# EAGLE library part ARDUINO_DUEMILANOVE (library lpatiny copy)
Arduino Duemilanove I/O pin arrangement
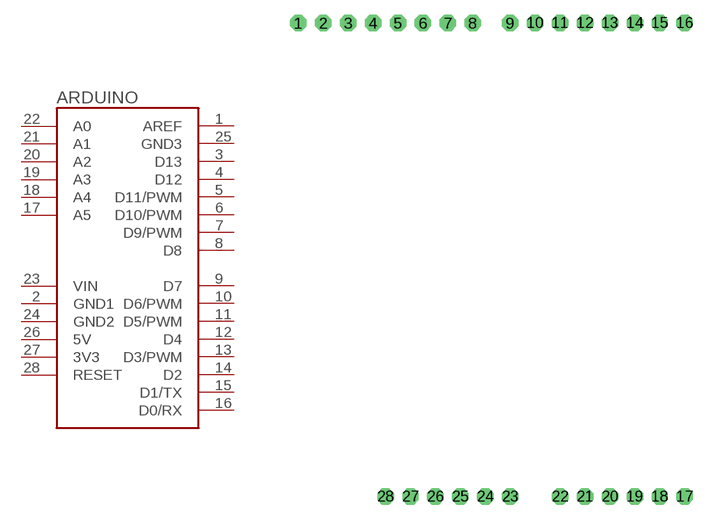
[diagram p3: symbol with the pads of ARDUINO_DUEMILANOVE; footprint ARDUINO_DUEMILANOVE]

Designator prefix ARDUINO

## ARDUINO_DUEMILANOVE  [ARDUINO_DUEMILANOVE]
1  AREF
2  GND1  pwr
3  D13
4  D12
5  D11/PWM
6  D10/PWM
7  D9/PWM
8  D8
9  D7
10  D6/PWM
11  D5/PWM
12  D4
13  D3/PWM
14  D2
15  D1/TX
16  D0/RX
17  A5
18  A4
19  A3
20  A2
21  A1
22  A0
23  VIN
24  GND2  pwr
25  GND3
26  5V  pwr
27  3V3  pwr
28  RESET

## Footprint ARDUINO_DUEMILANOVE (pad centres in mm)
Matching connections to piggyback onto Arduino Duemilanove
drill 0.8 pad 1.676 octagon: 1 -21.59,22.86; 2 -19.05,22.86; 3 -16.51,22.86; 4 -13.97,22.86; 5 -11.43,22.86; 6 -8.89,22.86; 7 -6.35,22.86; 8 -3.81,22.86; 9 0,22.86; 10 2.54,22.86; 11 5.08,22.86; 12 7.62,22.86; 13 10.16,22.86; 14 12.7,22.86; 15 15.24,22.86; 16 17.78,22.86; 17 17.78,-25.4; 18 15.24,-25.4; 19 12.7,-25.4; 20 10.16,-25.4; 21 7.62,-25.4; 22 5.08,-25.4; 23 0,-25.4; 24 -2.54,-25.4; 25 -5.08,-25.4; 26 -7.62,-25.4; 27 -10.16,-25.4; 28 -12.7,-25.4